# EAGLE library part DRV8870 (library misc)
DRV88703.6-A Brushed DC Motor Driver (PWM Control)
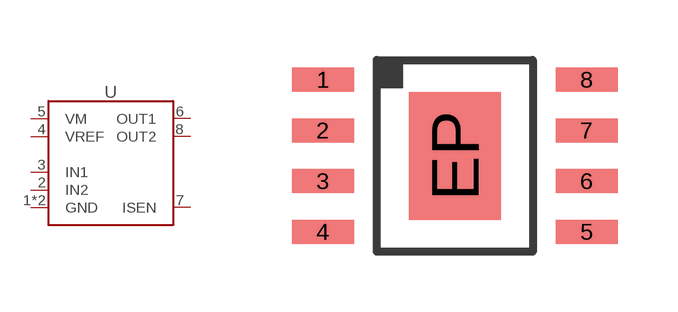
[diagram p76: symbol with the pads of SOIC8-EP; footprint SOIC8-EP]

Designator prefix U

## DRV8870 (MANF: Texas Instruments; MANF#: DRV8870DDAR)  [SOIC8-EP]
1  GND  pwr
2  IN2  in
3  IN1  in
4  VREF  in
5  VM  pwr
6  OUT1  out
7  ISEN  pas
8  OUT2  out
EP  GND  pwr

## Footprint SOIC8-EP (pad centres in mm)
https://www.ti.com/lit/ds/snvsaq5a/snvsaq5a.pdf?ts=1602424164509
smd 1.55 x 0.6: 1 -3.3,1.905; 2 -3.3,0.635; 3 -3.3,-0.635; 4 -3.3,-1.905; 5 3.3,-1.905; 6 3.3,-0.635; 7 3.3,0.635; 8 3.3,1.905
smd 2.3 x 3.2: EP 0,0